# Altium schematic symbol library Interface USB.SchLib: 91 symbols (part 4 of 12)
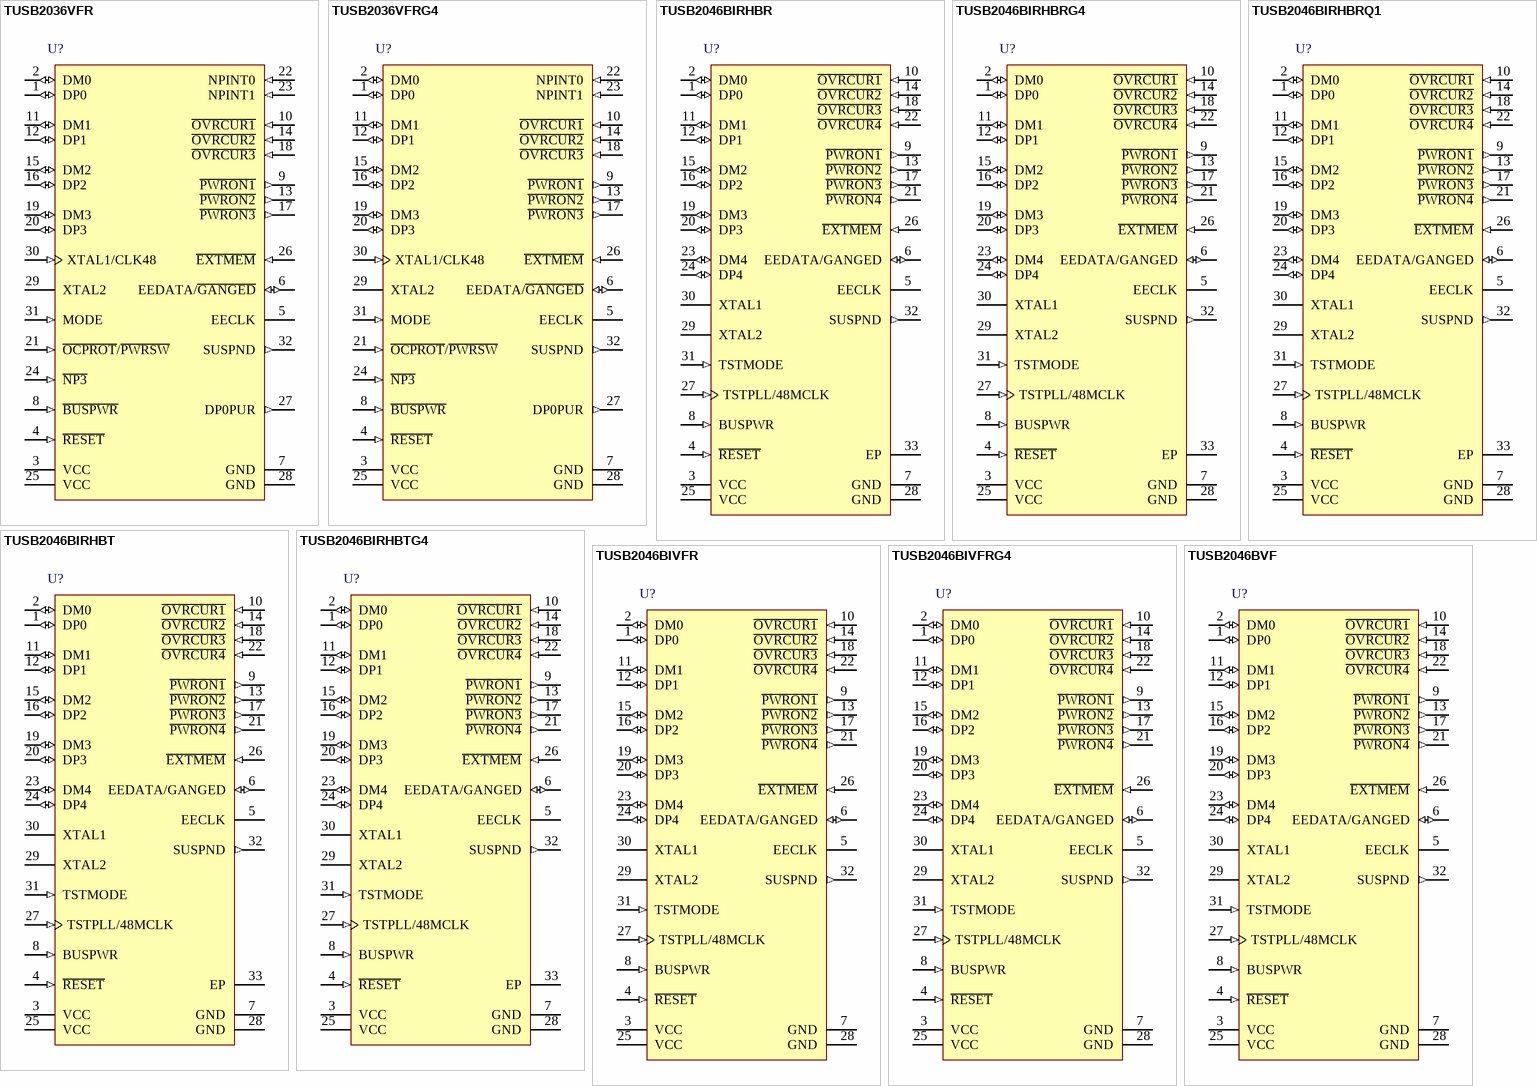
[diagram p11: symbols TUSB2036VFR to TUSB2046BVF]

## TUSB2046BIRHBR
designator U?
4-Port Full-Speed USB Hub, 3.3V, -40 to 85 degC, 32-Pin QFN (RHB), Green (RoHS & no Sb/Br); PartNumber: TUSB2046BIRHBR; Manufacturer: Texas Instruments; SubFamily: USB Hub Controller; USB Speed: Full; USB Full Speed: True; Supply Voltage(s)(V): 3.3; DatasheetVersion: SLLS413H; PackageVersion: revD, Jun-2011; PackageReference: RHB32-3450X3450TP; PackageDescription: 32-Pin Plastic Quad Flat No-Lead, 5 x 5 mm Body, 0.5 mm Pitch, 3.45 x 3.45 mm Exposed Pad; Mounting Technology: Surface Mount; Eco-Plan: Green (RoHS & no Sb/Br); Integrated MCU Architecture: N/A; Code_JEDEC: MO-220; ComponentLink1Description: Datasheet; ComponentLink1URL: http://www.ti.com/general/docs/lit/getliterature.tsp?genericPartNumber=TUSB2046B&fileType=pdf; ComponentLink2Description: Package Specification; ComponentLink2URL: http://www.ti.com/litv/pdf/mpqf130c
footprint RHB32-3450X3450TP (QFN, 32-Leads, Body 5x5mm, Pitch 0.5mm, Thermal Pad 3.45x3.45mm, TI Recommended)
pins: 1 DP0 (io) "Root port USB differential data plus. DP0 paired with DM0 constitutes the upstream USB port.", 2 DM0 (io) "Root port USB differential data minus. DM0 paired with DP0 constitutes the upstream USB port.", 3 VCC (power) "3.3-V supply voltage", 4 ~{RESET} (in) "R\E\S\E\T\ is an active low TTL input with hysteresis and must be asserted at power up. When R\E\S\E\T\ is asserted, all logic is initialized. Generally, a reset with a pulse width between 100 us and 1 ms is recommended (See Datasheet)", 5 EECLK (hiz) "EEPROM serial clock. When E\X\T\M\E\M\ is high, the EEPROM interface is disabled. The EECLK terminal is disabled and must be left floating (unconnected). When E\X\T\M\E\M\ is low, EECLK acts as a 3-state serial clock output (See Datasheet)", 6 EEDATA/GANGED (io) "EEPROM serial data/power-management mode indicator. When E\X\T\M\E\M\ is high, EEDATA/GANGED selects between ganged or per-port power overcurrent detection for the downstream ports. When E\X\T\M\E\M\ is low, EEDATA/GANGED (See Datasheet)", 7 GND (power) "GND terminals must be tied to ground for proper operation.", 8 BUSPWR (in) "Power source indicator. BUSPWR is an active-high input that indicates whether the downstream ports source their power from the USB cable or a local power supply. For the bus-power mode, this terminal must be pulled to 3.3 V, (See Datasheet)", 9 ~{PWRON1} (out) "Power-on/-off control signals. P\W\R\O\N\1\-P\W\R\O\N\4\ are active low, push-pull outputs. Push-pull outputs eliminate the pullup resistors which open-drain outputs require. However, the external power switches that connect (See Datasheet)", 10 ~{OVRCUR1} (in) "Overcurrent input. O\V\R\C\U\R\1\-O\V\R\C\U\R\4\are active low. For per-port overcurrent detection, one overcurrent input is available for each of the four downstream ports. In the ganged mode, any O\V\R\C\U\R\ input may be (See Datasheet)", 11 DM1 (io) "USB differential data minus. DM1-DM4 paired with DP1-DP4 support up to four downstream USB ports.", 12 DP1 (io) "USB differential data plus. DP1-DP4 paired with DM1-DM4 support up to four downstream USB ports.", 13 ~{PWRON2} (out) "Power-on/-off control signals. P\W\R\O\N\1\-P\W\R\O\N\4\ are active low, push-pull outputs. Push-pull outputs eliminate the pullup resistors which open-drain outputs require. However, the external power switches that connect (See Datasheet)", 14 ~{OVRCUR2} (in) "Overcurrent input. O\V\R\C\U\R\1\-O\V\R\C\U\R\4\are active low. For per-port overcurrent detection, one overcurrent input is available for each of the four downstream ports. In the ganged mode, any O\V\R\C\U\R\ input may be (See Datasheet)", 15 DM2 (io) "USB differential data minus. DM1-DM4 paired with DP1-DP4 support up to four downstream USB ports.", 16 DP2 (io) "USB differential data plus. DP1-DP4 paired with DM1-DM4 support up to four downstream USB ports.", 17 ~{PWRON3} (out) "Power-on/-off control signals. P\W\R\O\N\1\-P\W\R\O\N\4\ are active low, push-pull outputs. Push-pull outputs eliminate the pullup resistors which open-drain outputs require. However, the external power switches that connect (See Datasheet)", 18 ~{OVRCUR3} (in) "Overcurrent input. O\V\R\C\U\R\1\-O\V\R\C\U\R\4\are active low. For per-port overcurrent detection, one overcurrent input is available for each of the four downstream ports. In the ganged mode, any O\V\R\C\U\R\ input may be (See Datasheet)", 19 DM3 (io) "USB differential data minus. DM1-DM4 paired with DP1-DP4 support up to four downstream USB ports.", 20 DP3 (io) "USB differential data plus. DP1-DP4 paired with DM1-DM4 support up to four downstream USB ports.", 21 ~{PWRON4} (out) "Power-on/-off control signals. P\W\R\O\N\1\-P\W\R\O\N\4\ are active low, push-pull outputs. Push-pull outputs eliminate the pullup resistors which open-drain outputs require. However, the external power switches that connect (See Datasheet)", 22 ~{OVRCUR4} (in) "Overcurrent input. O\V\R\C\U\R\1\-O\V\R\C\U\R\4\are active low. For per-port overcurrent detection, one overcurrent input is available for each of the four downstream ports. In the ganged mode, any O\V\R\C\U\R\ input may be (See Datasheet)", 23 DM4 (io) "USB differential data minus. DM1-DM4 paired with DP1-DP4 support up to four downstream USB ports.", 24 DP4 (io) "USB differential data plus. DP1-DP4 paired with DM1-DM4 support up to four downstream USB ports.", 25 VCC (power) "3.3-V supply voltage", 26 ~{EXTMEM} (in) "When E\X\T\M\E\M\ is high, the serial EEPROM interface of the device is disabled. When E\X\T\M\E\M\ is low, terminals 5 and 6 are configured as the clock and data terminals of the serial EEPROM interface, respectively.", 27 TSTPLL/48MCLK (in) "Test/48-MHz clock input. TSTPLL/48MCLK is used as a test terminal during production testing. This terminal must be tied to ground for normal 6-MHz operation. If 48-MHz input clock is desired, a 48-MHz clock source (no (See Datasheet)", 28 GND (power) "GND terminals must be tied to ground for proper operation.", 29 XTAL2 "Crystal 2. XTAL2 is a 6-MHz crystal output. This terminal must be left open when using an oscillator.", 30 XTAL1 "Crystal 1. XTAL1 is a 6-MHz crystal input with 50% duty cycle. An internal PLL generates the 48-MHz and 12-MHz clocks used internally by the ASIC logic.", 31 TSTMODE (in) "Test/mode terminal. TSTMODE is used as a test terminal during production testing. This terminal must be tied to ground or 3.3-V VCC for normal 6-MHz or 48-MHz operation, respectively.", 32 SUSPND (out) "Suspend status. SUSPND is an active high output available for external logic power-down operations. During the suspend mode, SUSPND is high. SUSPND is low for normal operation.", 33 EP "Exposed Pad"

## TUSB2046BIRHBRG4
designator U?
4-Port Full-Speed USB Hub, 3.3V, -40 to 85 degC, 32-Pin QFN (RHB), Green (RoHS & no Sb/Br); PartNumber: TUSB2046BIRHBRG4; Manufacturer: Texas Instruments; SubFamily: USB Hub Controller; USB Speed: Full; USB Full Speed: True; Supply Voltage(s)(V): 3.3; DatasheetVersion: SLLS413H; PackageVersion: revD, Jun-2011; PackageReference: RHB32-3450X3450TP; PackageDescription: 32-Pin Plastic Quad Flat No-Lead, 5 x 5 mm Body, 0.5 mm Pitch, 3.45 x 3.45 mm Exposed Pad; Mounting Technology: Surface Mount; Eco-Plan: Green (RoHS & no Sb/Br); Integrated MCU Architecture: N/A; Code_JEDEC: MO-220; ComponentLink1Description: Datasheet; ComponentLink1URL: http://www.ti.com/general/docs/lit/getliterature.tsp?genericPartNumber=TUSB2046B&fileType=pdf; ComponentLink2Description: Package Specification; ComponentLink2URL: http://www.ti.com/litv/pdf/mpqf130c
footprint RHB32-3450X3450TP (QFN, 32-Leads, Body 5x5mm, Pitch 0.5mm, Thermal Pad 3.45x3.45mm, TI Recommended)
pins: 1 DP0 (io) "Root port USB differential data plus. DP0 paired with DM0 constitutes the upstream USB port.", 2 DM0 (io) "Root port USB differential data minus. DM0 paired with DP0 constitutes the upstream USB port.", 3 VCC (power) "3.3-V supply voltage", 4 ~{RESET} (in) "R\E\S\E\T\ is an active low TTL input with hysteresis and must be asserted at power up. When R\E\S\E\T\ is asserted, all logic is initialized. Generally, a reset with a pulse width between 100 us and 1 ms is recommended (See Datasheet)", 5 EECLK (hiz) "EEPROM serial clock. When E\X\T\M\E\M\ is high, the EEPROM interface is disabled. The EECLK terminal is disabled and must be left floating (unconnected). When E\X\T\M\E\M\ is low, EECLK acts as a 3-state serial clock output (See Datasheet)", 6 EEDATA/GANGED (io) "EEPROM serial data/power-management mode indicator. When E\X\T\M\E\M\ is high, EEDATA/GANGED selects between ganged or per-port power overcurrent detection for the downstream ports. When E\X\T\M\E\M\ is low, EEDATA/GANGED (See Datasheet)", 7 GND (power) "GND terminals must be tied to ground for proper operation.", 8 BUSPWR (in) "Power source indicator. BUSPWR is an active-high input that indicates whether the downstream ports source their power from the USB cable or a local power supply. For the bus-power mode, this terminal must be pulled to 3.3 V, (See Datasheet)", 9 ~{PWRON1} (out) "Power-on/-off control signals. P\W\R\O\N\1\-P\W\R\O\N\4\ are active low, push-pull outputs. Push-pull outputs eliminate the pullup resistors which open-drain outputs require. However, the external power switches that connect (See Datasheet)", 10 ~{OVRCUR1} (in) "Overcurrent input. O\V\R\C\U\R\1\-O\V\R\C\U\R\4\are active low. For per-port overcurrent detection, one overcurrent input is available for each of the four downstream ports. In the ganged mode, any O\V\R\C\U\R\ input may be (See Datasheet)", 11 DM1 (io) "USB differential data minus. DM1-DM4 paired with DP1-DP4 support up to four downstream USB ports.", 12 DP1 (io) "USB differential data plus. DP1-DP4 paired with DM1-DM4 support up to four downstream USB ports.", 13 ~{PWRON2} (out) "Power-on/-off control signals. P\W\R\O\N\1\-P\W\R\O\N\4\ are active low, push-pull outputs. Push-pull outputs eliminate the pullup resistors which open-drain outputs require. However, the external power switches that connect (See Datasheet)", 14 ~{OVRCUR2} (in) "Overcurrent input. O\V\R\C\U\R\1\-O\V\R\C\U\R\4\are active low. For per-port overcurrent detection, one overcurrent input is available for each of the four downstream ports. In the ganged mode, any O\V\R\C\U\R\ input may be (See Datasheet)", 15 DM2 (io) "USB differential data minus. DM1-DM4 paired with DP1-DP4 support up to four downstream USB ports.", 16 DP2 (io) "USB differential data plus. DP1-DP4 paired with DM1-DM4 support up to four downstream USB ports.", 17 ~{PWRON3} (out) "Power-on/-off control signals. P\W\R\O\N\1\-P\W\R\O\N\4\ are active low, push-pull outputs. Push-pull outputs eliminate the pullup resistors which open-drain outputs require. However, the external power switches that connect (See Datasheet)", 18 ~{OVRCUR3} (in) "Overcurrent input. O\V\R\C\U\R\1\-O\V\R\C\U\R\4\are active low. For per-port overcurrent detection, one overcurrent input is available for each of the four downstream ports. In the ganged mode, any O\V\R\C\U\R\ input may be (See Datasheet)", 19 DM3 (io) "USB differential data minus. DM1-DM4 paired with DP1-DP4 support up to four downstream USB ports.", 20 DP3 (io) "USB differential data plus. DP1-DP4 paired with DM1-DM4 support up to four downstream USB ports.", 21 ~{PWRON4} (out) "Power-on/-off control signals. P\W\R\O\N\1\-P\W\R\O\N\4\ are active low, push-pull outputs. Push-pull outputs eliminate the pullup resistors which open-drain outputs require. However, the external power switches that connect (See Datasheet)", 22 ~{OVRCUR4} (in) "Overcurrent input. O\V\R\C\U\R\1\-O\V\R\C\U\R\4\are active low. For per-port overcurrent detection, one overcurrent input is available for each of the four downstream ports. In the ganged mode, any O\V\R\C\U\R\ input may be (See Datasheet)", 23 DM4 (io) "USB differential data minus. DM1-DM4 paired with DP1-DP4 support up to four downstream USB ports.", 24 DP4 (io) "USB differential data plus. DP1-DP4 paired with DM1-DM4 support up to four downstream USB ports.", 25 VCC (power) "3.3-V supply voltage", 26 ~{EXTMEM} (in) "When E\X\T\M\E\M\ is high, the serial EEPROM interface of the device is disabled. When E\X\T\M\E\M\ is low, terminals 5 and 6 are configured as the clock and data terminals of the serial EEPROM interface, respectively.", 27 TSTPLL/48MCLK (in) "Test/48-MHz clock input. TSTPLL/48MCLK is used as a test terminal during production testing. This terminal must be tied to ground for normal 6-MHz operation. If 48-MHz input clock is desired, a 48-MHz clock source (no (See Datasheet)", 28 GND (power) "GND terminals must be tied to ground for proper operation.", 29 XTAL2 "Crystal 2. XTAL2 is a 6-MHz crystal output. This terminal must be left open when using an oscillator.", 30 XTAL1 "Crystal 1. XTAL1 is a 6-MHz crystal input with 50% duty cycle. An internal PLL generates the 48-MHz and 12-MHz clocks used internally by the ASIC logic.", 31 TSTMODE (in) "Test/mode terminal. TSTMODE is used as a test terminal during production testing. This terminal must be tied to ground or 3.3-V VCC for normal 6-MHz or 48-MHz operation, respectively.", 32 SUSPND (out) "Suspend status. SUSPND is an active high output available for external logic power-down operations. During the suspend mode, SUSPND is high. SUSPND is low for normal operation.", 33 EP "Exposed Pad"

## TUSB2046BIRHBRQ1
designator U?
Automotive Catalog 4-Port Full-Speed USB Hub, 3.3V, -40 to 85 degC, 32-Pin QFN (RHB), Green (RoHS & no Sb/Br); PartNumber: TUSB2046BIRHBRQ1; Manufacturer: Texas Instruments; SubFamily: USB Hub Controller; USB Speed: Full; USB Full Speed: True; Supply Voltage(s)(V): 3.3; DatasheetVersion: SLLSE50; PackageVersion: revD, Jun-2011; PackageReference: RHB32-3450X3450TP; PackageDescription: 32-Pin Plastic Quad Flat No-Lead, 5 x 5 mm Body, 0.5 mm Pitch, 3.45 x 3.45 mm Exposed Pad; Mounting Technology: Surface Mount; Eco-Plan: Green (RoHS & no Sb/Br); Integrated MCU Architecture: N/A; Code_JEDEC: MO-220; ComponentLink1Description: Datasheet; ComponentLink1URL: http://www.ti.com/general/docs/lit/getliterature.tsp?genericPartNumber=TUSB2046B-Q1&fileType=pdf; ComponentLink2Description: Package Specification; ComponentLink2URL: http://www.ti.com/litv/pdf/mpqf130c
footprint RHB32-3450X3450TP (QFN, 32-Leads, Body 5x5mm, Pitch 0.5mm, Thermal Pad 3.45x3.45mm, TI Recommended)
pins: 1 DP0 (io) "Root port USB differential data plus. DP0 paired with DM0 constitutes the upstream USB port", 2 DM0 (io) "Root port USB differential data minus. DM0 paired with DP0 constitutes the upstream USB port", 3 VCC (power) "3.3-V supply voltage", 4 ~{RESET} (in) "R\E\S\E\T\ is an active low TTL input with hysteresis and must be asserted at power up. When R\E\S\E\T\ is asserted, all logic is initialized. Generally, a reset with a pulse width between 100 us and 1 ms is recommended (See Datasheet)", 5 EECLK (hiz) "EEPROM serial clock. When E\X\T\M\E\M\ is high, the EEPROM interface is disabled. The EECLK terminal is disabled and must be left floating (unconnected). When E\X\T\M\E\M\ is low, EECLK acts as a 3-state serial clock output (See Datasheet)", 6 EEDATA/GANGED (io) "EEPROM serial data/power-management mode indicator. When E\X\T\M\E\M\ is high, EEDATA/GANGED selects between ganged or per-port power overcurrent detection for the downstream ports. When E\X\T\M\E\M\ is low, EEDATA/GANGED (See Datasheet)", 7 GND (power) "GND terminals must be tied to ground for proper operation.", 8 BUSPWR (in) "Power source indicator. BUSPWR is an active-high input that indicates whether the downstream ports source their power from the USB cable or a local power supply. For the bus-power mode, this terminal must be pulled to 3.3 V, (See Datasheet)", 9 ~{PWRON1} (out) "Power-on/-off control signals. P\W\R\O\N\1\-P\W\R\O\N\4\ are active low, push-pull outputs. Push-pull outputs eliminate the pullup resistors which open-drain outputs require. However, the external power switches that connect (See Datasheet)", 10 ~{OVRCUR1} (in) "Overcurrent input. O\V\R\C\U\R\1\-O\V\R\C\U\R\4\are active low. For per-port overcurrent detection, one overcurrent input is available for each of the four downstream ports. In the ganged mode, any O\V\R\C\U\R\ input may be (See Datasheet)", 11 DM1 (io) "USB differential data minus. DM1-DM4 paired with DP1-DP4 support up to four downstream USB ports.", 12 DP1 (io) "USB differential data plus. DP1-DP4 paired with DM1-DM4 support up to four downstream USB ports.", 13 ~{PWRON2} (out) "Power-on/-off control signals. P\W\R\O\N\1\-P\W\R\O\N\4\ are active low, push-pull outputs. Push-pull outputs eliminate the pullup resistors which open-drain outputs require. However, the external power switches that connect (See Datasheet)", 14 ~{OVRCUR2} (in) "Overcurrent input. O\V\R\C\U\R\1\-O\V\R\C\U\R\4\are active low. For per-port overcurrent detection, one overcurrent input is available for each of the four downstream ports. In the ganged mode, any O\V\R\C\U\R\ input may be (See Datasheet)", 15 DM2 (io) "USB differential data minus. DM1-DM4 paired with DP1-DP4 support up to four downstream USB ports.", 16 DP2 (io) "USB differential data plus. DP1-DP4 paired with DM1-DM4 support up to four downstream USB ports.", 17 ~{PWRON3} (out) "Power-on/-off control signals. P\W\R\O\N\1\-P\W\R\O\N\4\ are active low, push-pull outputs. Push-pull outputs eliminate the pullup resistors which open-drain outputs require. However, the external power switches that connect (See Datasheet)", 18 ~{OVRCUR3} (in) "Overcurrent input. O\V\R\C\U\R\1\-O\V\R\C\U\R\4\are active low. For per-port overcurrent detection, one overcurrent input is available for each of the four downstream ports. In the ganged mode, any O\V\R\C\U\R\ input may be (See Datasheet)", 19 DM3 (io) "USB differential data minus. DM1-DM4 paired with DP1-DP4 support up to four downstream USB ports.", 20 DP3 (io) "USB differential data plus. DP1-DP4 paired with DM1-DM4 support up to four downstream USB ports.", 21 ~{PWRON4} (out) "Power-on/-off control signals. P\W\R\O\N\1\-P\W\R\O\N\4\ are active low, push-pull outputs. Push-pull outputs eliminate the pullup resistors which open-drain outputs require. However, the external power switches that connect (See Datasheet)", 22 ~{OVRCUR4} (in) "Overcurrent input. O\V\R\C\U\R\1\-O\V\R\C\U\R\4\are active low. For per-port overcurrent detection, one overcurrent input is available for each of the four downstream ports. In the ganged mode, any O\V\R\C\U\R\ input may be (See Datasheet)", 23 DM4 (io) "USB differential data minus. DM1-DM4 paired with DP1-DP4 support up to four downstream USB ports.", 24 DP4 (io) "USB differential data plus. DP1-DP4 paired with DM1-DM4 support up to four downstream USB ports.", 25 VCC (power) "3.3-V supply voltage", 26 ~{EXTMEM} (in) "When E\X\T\M\E\M\ is high, the serial EEPROM interface of the device is disabled. When E\X\T\M\E\M\ is low, terminals 5 and 6 are configured as the clock and data terminals of the serial EEPROM interface, respectively.", 27 TSTPLL/48MCLK (in) "Test/48-MHz clock input. TSTPLL/48MCLK is used as a test terminal during production testing. This terminal must be tied to ground for normal 6-MHz operation. If 48-MHz input clock is desired, a 48-MHz clock source (no (See Datasheet)", 28 GND (power) "GND terminals must be tied to ground for proper operation.", 29 XTAL2 "Crystal 2. XTAL2 is a 6-MHz crystal output. This terminal must be left open when using an oscillator.", 30 XTAL1 "Crystal 1. XTAL1 is a 6-MHz crystal input with 50% duty cycle. An internal PLL generates the 48-MHz and 12-MHz clocks used internally by the ASIC logic.", 31 TSTMODE (in) "Test/mode terminal. TSTMODE is used as a test terminal during production testing. This terminal must be tied to ground or 3.3-V VCC for normal 6-MHz or 48-MHz operation, respectively.", 32 SUSPND (out) "Suspend status. SUSPND is an active high output available for external logic power-down operations. During the suspend mode, SUSPND is high. SUSPND is low for normal operation.", 33 EP "Exposed Pad"

## TUSB2046BIRHBT
designator U?
4-Port Full-Speed USB Hub, 3.3V, -40 to 85 degC, 32-Pin QFN (RHB), Green (RoHS & no Sb/Br); PartNumber: TUSB2046BIRHBT; Manufacturer: Texas Instruments; SubFamily: USB Hub Controller; USB Speed: Full; USB Full Speed: True; Supply Voltage(s)(V): 3.3; DatasheetVersion: SLLS413H; PackageVersion: revD, Jun-2011; PackageReference: RHB32-3450X3450TP; PackageDescription: 32-Pin Plastic Quad Flat No-Lead, 5 x 5 mm Body, 0.5 mm Pitch, 3.45 x 3.45 mm Exposed Pad; Mounting Technology: Surface Mount; Eco-Plan: Green (RoHS & no Sb/Br); Integrated MCU Architecture: N/A; Code_JEDEC: MO-220; ComponentLink1Description: Datasheet; ComponentLink1URL: http://www.ti.com/general/docs/lit/getliterature.tsp?genericPartNumber=TUSB2046B&fileType=pdf; ComponentLink2Description: Package Specification; ComponentLink2URL: http://www.ti.com/litv/pdf/mpqf130c
footprint RHB32-3450X3450TP (QFN, 32-Leads, Body 5x5mm, Pitch 0.5mm, Thermal Pad 3.45x3.45mm, TI Recommended)
pins: 1 DP0 (io) "Root port USB differential data plus. DP0 paired with DM0 constitutes the upstream USB port.", 2 DM0 (io) "Root port USB differential data minus. DM0 paired with DP0 constitutes the upstream USB port.", 3 VCC (power) "3.3-V supply voltage", 4 ~{RESET} (in) "R\E\S\E\T\ is an active low TTL input with hysteresis and must be asserted at power up. When R\E\S\E\T\ is asserted, all logic is initialized. Generally, a reset with a pulse width between 100 us and 1 ms is recommended (See Datasheet)", 5 EECLK (hiz) "EEPROM serial clock. When E\X\T\M\E\M\ is high, the EEPROM interface is disabled. The EECLK terminal is disabled and must be left floating (unconnected). When E\X\T\M\E\M\ is low, EECLK acts as a 3-state serial clock output (See Datasheet)", 6 EEDATA/GANGED (io) "EEPROM serial data/power-management mode indicator. When E\X\T\M\E\M\ is high, EEDATA/GANGED selects between ganged or per-port power overcurrent detection for the downstream ports. When E\X\T\M\E\M\ is low, EEDATA/GANGED (See Datasheet)", 7 GND (power) "GND terminals must be tied to ground for proper operation.", 8 BUSPWR (in) "Power source indicator. BUSPWR is an active-high input that indicates whether the downstream ports source their power from the USB cable or a local power supply. For the bus-power mode, this terminal must be pulled to 3.3 V, (See Datasheet)", 9 ~{PWRON1} (out) "Power-on/-off control signals. P\W\R\O\N\1\-P\W\R\O\N\4\ are active low, push-pull outputs. Push-pull outputs eliminate the pullup resistors which open-drain outputs require. However, the external power switches that connect (See Datasheet)", 10 ~{OVRCUR1} (in) "Overcurrent input. O\V\R\C\U\R\1\-O\V\R\C\U\R\4\are active low. For per-port overcurrent detection, one overcurrent input is available for each of the four downstream ports. In the ganged mode, any O\V\R\C\U\R\ input may be (See Datasheet)", 11 DM1 (io) "USB differential data minus. DM1-DM4 paired with DP1-DP4 support up to four downstream USB ports.", 12 DP1 (io) "USB differential data plus. DP1-DP4 paired with DM1-DM4 support up to four downstream USB ports.", 13 ~{PWRON2} (out) "Power-on/-off control signals. P\W\R\O\N\1\-P\W\R\O\N\4\ are active low, push-pull outputs. Push-pull outputs eliminate the pullup resistors which open-drain outputs require. However, the external power switches that connect (See Datasheet)", 14 ~{OVRCUR2} (in) "Overcurrent input. O\V\R\C\U\R\1\-O\V\R\C\U\R\4\are active low. For per-port overcurrent detection, one overcurrent input is available for each of the four downstream ports. In the ganged mode, any O\V\R\C\U\R\ input may be (See Datasheet)", 15 DM2 (io) "USB differential data minus. DM1-DM4 paired with DP1-DP4 support up to four downstream USB ports.", 16 DP2 (io) "USB differential data plus. DP1-DP4 paired with DM1-DM4 support up to four downstream USB ports.", 17 ~{PWRON3} (out) "Power-on/-off control signals. P\W\R\O\N\1\-P\W\R\O\N\4\ are active low, push-pull outputs. Push-pull outputs eliminate the pullup resistors which open-drain outputs require. However, the external power switches that connect (See Datasheet)", 18 ~{OVRCUR3} (in) "Overcurrent input. O\V\R\C\U\R\1\-O\V\R\C\U\R\4\are active low. For per-port overcurrent detection, one overcurrent input is available for each of the four downstream ports. In the ganged mode, any O\V\R\C\U\R\ input may be (See Datasheet)", 19 DM3 (io) "USB differential data minus. DM1-DM4 paired with DP1-DP4 support up to four downstream USB ports.", 20 DP3 (io) "USB differential data plus. DP1-DP4 paired with DM1-DM4 support up to four downstream USB ports.", 21 ~{PWRON4} (out) "Power-on/-off control signals. P\W\R\O\N\1\-P\W\R\O\N\4\ are active low, push-pull outputs. Push-pull outputs eliminate the pullup resistors which open-drain outputs require. However, the external power switches that connect (See Datasheet)", 22 ~{OVRCUR4} (in) "Overcurrent input. O\V\R\C\U\R\1\-O\V\R\C\U\R\4\are active low. For per-port overcurrent detection, one overcurrent input is available for each of the four downstream ports. In the ganged mode, any O\V\R\C\U\R\ input may be (See Datasheet)", 23 DM4 (io) "USB differential data minus. DM1-DM4 paired with DP1-DP4 support up to four downstream USB ports.", 24 DP4 (io) "USB differential data plus. DP1-DP4 paired with DM1-DM4 support up to four downstream USB ports.", 25 VCC (power) "3.3-V supply voltage", 26 ~{EXTMEM} (in) "When E\X\T\M\E\M\ is high, the serial EEPROM interface of the device is disabled. When E\X\T\M\E\M\ is low, terminals 5 and 6 are configured as the clock and data terminals of the serial EEPROM interface, respectively.", 27 TSTPLL/48MCLK (in) "Test/48-MHz clock input. TSTPLL/48MCLK is used as a test terminal during production testing. This terminal must be tied to ground for normal 6-MHz operation. If 48-MHz input clock is desired, a 48-MHz clock source (no (See Datasheet)", 28 GND (power) "GND terminals must be tied to ground for proper operation.", 29 XTAL2 "Crystal 2. XTAL2 is a 6-MHz crystal output. This terminal must be left open when using an oscillator.", 30 XTAL1 "Crystal 1. XTAL1 is a 6-MHz crystal input with 50% duty cycle. An internal PLL generates the 48-MHz and 12-MHz clocks used internally by the ASIC logic.", 31 TSTMODE (in) "Test/mode terminal. TSTMODE is used as a test terminal during production testing. This terminal must be tied to ground or 3.3-V VCC for normal 6-MHz or 48-MHz operation, respectively.", 32 SUSPND (out) "Suspend status. SUSPND is an active high output available for external logic power-down operations. During the suspend mode, SUSPND is high. SUSPND is low for normal operation.", 33 EP "Exposed Pad"

## TUSB2046BIRHBTG4
designator U?
4-Port Full-Speed USB Hub, 3.3V, -40 to 85 degC, 32-Pin QFN (RHB), Green (RoHS & no Sb/Br); PartNumber: TUSB2046BIRHBTG4; Manufacturer: Texas Instruments; SubFamily: USB Hub Controller; USB Speed: Full; USB Full Speed: True; Supply Voltage(s)(V): 3.3; DatasheetVersion: SLLS413H; PackageVersion: revD, Jun-2011; PackageReference: RHB32-3450X3450TP; PackageDescription: 32-Pin Plastic Quad Flat No-Lead, 5 x 5 mm Body, 0.5 mm Pitch, 3.45 x 3.45 mm Exposed Pad; Mounting Technology: Surface Mount; Eco-Plan: Green (RoHS & no Sb/Br); Integrated MCU Architecture: N/A; Code_JEDEC: MO-220; ComponentLink1Description: Datasheet; ComponentLink1URL: http://www.ti.com/general/docs/lit/getliterature.tsp?genericPartNumber=TUSB2046B&fileType=pdf; ComponentLink2Description: Package Specification; ComponentLink2URL: http://www.ti.com/litv/pdf/mpqf130c
footprint RHB32-3450X3450TP (QFN, 32-Leads, Body 5x5mm, Pitch 0.5mm, Thermal Pad 3.45x3.45mm, TI Recommended)
pins: 1 DP0 (io) "Root port USB differential data plus. DP0 paired with DM0 constitutes the upstream USB port.", 2 DM0 (io) "Root port USB differential data minus. DM0 paired with DP0 constitutes the upstream USB port.", 3 VCC (power) "3.3-V supply voltage", 4 ~{RESET} (in) "R\E\S\E\T\ is an active low TTL input with hysteresis and must be asserted at power up. When R\E\S\E\T\ is asserted, all logic is initialized. Generally, a reset with a pulse width between 100 us and 1 ms is recommended (See Datasheet)", 5 EECLK (hiz) "EEPROM serial clock. When E\X\T\M\E\M\ is high, the EEPROM interface is disabled. The EECLK terminal is disabled and must be left floating (unconnected). When E\X\T\M\E\M\ is low, EECLK acts as a 3-state serial clock output (See Datasheet)", 6 EEDATA/GANGED (io) "EEPROM serial data/power-management mode indicator. When E\X\T\M\E\M\ is high, EEDATA/GANGED selects between ganged or per-port power overcurrent detection for the downstream ports. When E\X\T\M\E\M\ is low, EEDATA/GANGED (See Datasheet)", 7 GND (power) "GND terminals must be tied to ground for proper operation.", 8 BUSPWR (in) "Power source indicator. BUSPWR is an active-high input that indicates whether the downstream ports source their power from the USB cable or a local power supply. For the bus-power mode, this terminal must be pulled to 3.3 V, (See Datasheet)", 9 ~{PWRON1} (out) "Power-on/-off control signals. P\W\R\O\N\1\-P\W\R\O\N\4\ are active low, push-pull outputs. Push-pull outputs eliminate the pullup resistors which open-drain outputs require. However, the external power switches that connect (See Datasheet)", 10 ~{OVRCUR1} (in) "Overcurrent input. O\V\R\C\U\R\1\-O\V\R\C\U\R\4\are active low. For per-port overcurrent detection, one overcurrent input is available for each of the four downstream ports. In the ganged mode, any O\V\R\C\U\R\ input may be (See Datasheet)", 11 DM1 (io) "USB differential data minus. DM1-DM4 paired with DP1-DP4 support up to four downstream USB ports.", 12 DP1 (io) "USB differential data plus. DP1-DP4 paired with DM1-DM4 support up to four downstream USB ports.", 13 ~{PWRON2} (out) "Power-on/-off control signals. P\W\R\O\N\1\-P\W\R\O\N\4\ are active low, push-pull outputs. Push-pull outputs eliminate the pullup resistors which open-drain outputs require. However, the external power switches that connect (See Datasheet)", 14 ~{OVRCUR2} (in) "Overcurrent input. O\V\R\C\U\R\1\-O\V\R\C\U\R\4\are active low. For per-port overcurrent detection, one overcurrent input is available for each of the four downstream ports. In the ganged mode, any O\V\R\C\U\R\ input may be (See Datasheet)", 15 DM2 (io) "USB differential data minus. DM1-DM4 paired with DP1-DP4 support up to four downstream USB ports.", 16 DP2 (io) "USB differential data plus. DP1-DP4 paired with DM1-DM4 support up to four downstream USB ports.", 17 ~{PWRON3} (out) "Power-on/-off control signals. P\W\R\O\N\1\-P\W\R\O\N\4\ are active low, push-pull outputs. Push-pull outputs eliminate the pullup resistors which open-drain outputs require. However, the external power switches that connect (See Datasheet)", 18 ~{OVRCUR3} (in) "Overcurrent input. O\V\R\C\U\R\1\-O\V\R\C\U\R\4\are active low. For per-port overcurrent detection, one overcurrent input is available for each of the four downstream ports. In the ganged mode, any O\V\R\C\U\R\ input may be (See Datasheet)", 19 DM3 (io) "USB differential data minus. DM1-DM4 paired with DP1-DP4 support up to four downstream USB ports.", 20 DP3 (io) "USB differential data plus. DP1-DP4 paired with DM1-DM4 support up to four downstream USB ports.", 21 ~{PWRON4} (out) "Power-on/-off control signals. P\W\R\O\N\1\-P\W\R\O\N\4\ are active low, push-pull outputs. Push-pull outputs eliminate the pullup resistors which open-drain outputs require. However, the external power switches that connect (See Datasheet)", 22 ~{OVRCUR4} (in) "Overcurrent input. O\V\R\C\U\R\1\-O\V\R\C\U\R\4\are active low. For per-port overcurrent detection, one overcurrent input is available for each of the four downstream ports. In the ganged mode, any O\V\R\C\U\R\ input may be (See Datasheet)", 23 DM4 (io) "USB differential data minus. DM1-DM4 paired with DP1-DP4 support up to four downstream USB ports.", 24 DP4 (io) "USB differential data plus. DP1-DP4 paired with DM1-DM4 support up to four downstream USB ports.", 25 VCC (power) "3.3-V supply voltage", 26 ~{EXTMEM} (in) "When E\X\T\M\E\M\ is high, the serial EEPROM interface of the device is disabled. When E\X\T\M\E\M\ is low, terminals 5 and 6 are configured as the clock and data terminals of the serial EEPROM interface, respectively.", 27 TSTPLL/48MCLK (in) "Test/48-MHz clock input. TSTPLL/48MCLK is used as a test terminal during production testing. This terminal must be tied to ground for normal 6-MHz operation. If 48-MHz input clock is desired, a 48-MHz clock source (no (See Datasheet)", 28 GND (power) "GND terminals must be tied to ground for proper operation.", 29 XTAL2 "Crystal 2. XTAL2 is a 6-MHz crystal output. This terminal must be left open when using an oscillator.", 30 XTAL1 "Crystal 1. XTAL1 is a 6-MHz crystal input with 50% duty cycle. An internal PLL generates the 48-MHz and 12-MHz clocks used internally by the ASIC logic.", 31 TSTMODE (in) "Test/mode terminal. TSTMODE is used as a test terminal during production testing. This terminal must be tied to ground or 3.3-V VCC for normal 6-MHz or 48-MHz operation, respectively.", 32 SUSPND (out) "Suspend status. SUSPND is an active high output available for external logic power-down operations. During the suspend mode, SUSPND is high. SUSPND is low for normal operation.", 33 EP "Exposed Pad"

## TUSB2046BIVFR
designator U?
4-Port Full-Speed USB Hub, 3.3V, -40 to 85 degC, 32-Pin LQFP (VF); PartNumber: TUSB2046BIVFR; Manufacturer: Texas Instruments; Eco-Plan: Green (RoHS & no Sb/Br); SubFamily: USB Hub Controller; USB Speed: Full; USB Full Speed: True; Supply Voltage(s)(V): 3.3; DatasheetVersion: SLLS413H; PackageVersion: revD, Apr-2000; PackageReference: VF32; PackageDescription: 32-Pin Plastic Quad Flatpack, 7 x 7 mm Body, 0.8 mm Pitch; Mounting Technology: Surface Mount; Integrated MCU Architecture: N/A; ComponentLink1Description: Datasheet; ComponentLink1URL: http://www.ti.com/general/docs/lit/getliterature.tsp?genericPartNumber=TUSB2046B&fileType=pdf; ComponentLink2Description: Package Specification; ComponentLink2URL: http://www.ti.com/litv/pdf/mtqf002b
footprint VF32_N (Thin QFP, 32-Leads, Body 7x7mm, Pitch 0.8mm, IPC Medium Density)
footprint VF32_L (Thin QFP, 32-Leads, Body 7x7mm, Pitch 0.8mm, IPC High Density)
footprint VF32_M (Thin QFP, 32-Leads, Body 7x7mm, Pitch 0.8mm, IPC Low Density)
pins: 1 DP0 (io) "Root port USB differential data plus. DP0 paired with DM0 constitutes the upstream USB port", 2 DM0 (io) "Root port USB differential data minus. DM0 paired with DP0 constitutes the upstream USB port", 3 VCC (power) "3.3-V supply voltage", 4 ~{RESET} (in) "R\E\S\E\T\ is an active low TTL input with hysteresis and must be asserted at power up. When R\E\S\E\T\ is asserted, all logic is initialized. Generally, a reset with a pulse width between 100 us and 1 ms is recommended (See Datasheet)", 5 EECLK (hiz) "EEPROM serial clock. When E\X\T\M\E\M\ is high, the EEPROM interface is disabled. The EECLK terminal is disabled and must be left floating (unconnected). When E\X\T\M\E\M\ is low, EECLK acts as a 3-state serial clock output (See Datasheet)", 6 EEDATA/GANGED (io) "EEPROM serial data/power-management mode indicator. When E\X\T\M\E\M\ is high, EEDATA/GANGED selects between ganged or per-port power overcurrent detection for the downstream ports. When E\X\T\M\E\M\ is low, EEDATA/GANGED (See Datasheet)", 7 GND (power) "GND terminals must be tied to ground for proper operation.", 8 BUSPWR (in) "Power source indicator. BUSPWR is an active-high input that indicates whether the downstream ports source their power from the USB cable or a local power supply. For the bus-power mode,this terminal must be pulled to 3.3 V, (See Datasheet)", 9 ~{PWRON1} (out) "Power-on/-off control signals. P\W\R\O\N\1\-P\W\R\O\N\4\ are active low, push-pull outputs. Push-pull outputs eliminate the pullup resistors which open-drain outputs require. However, the externalpower switches that connect (See Datasheet)", 10 ~{OVRCUR1} (in) "Overcurrent input. O\V\R\C\U\R\1\-O\V\R\C\U\R\4 \are active low. For per-port overcurrent detection, one overcurrent input is available for each of the four downstream ports. In the ganged mode, any O\V\R\C\U\R\ input may be (See Datasheet)", 11 DM1 (io) "USB differential data minus. DM1-DM4 paired with DP1-DP4 support up to four downstream USB ports.", 12 DP1 (io) "USB differential data plus. DP1-DP4 paired with DM1-DM4 support up to four downstream USB ports.", 13 ~{PWRON2} (out) "Power-on/-off control signals. P\W\R\O\N\1\-P\W\R\O\N\4\ are active low, push-pull outputs. Push-pull outputs eliminate the pullup resistors which open-drain outputs require. However, the externalpower switches that connect (See Datasheet)", 14 ~{OVRCUR2} (in) "Overcurrent input. O\V\R\C\U\R\1\-O\V\R\C\U\R\4 \are active low. For per-port overcurrent detection, one overcurrent input is available for each of the four downstream ports. In the ganged mode, any O\V\R\C\U\R\ input may be (See Datasheet)", 15 DM2 (io) "USB differential data minus. DM1-DM4 paired with DP1-DP4 support up to four downstream USB ports.", 16 DP2 (io) "USB differential data plus. DP1-DP4 paired with DM1-DM4 support up to four downstream USB ports.", 17 ~{PWRON3} (out) "Power-on/-off control signals. P\W\R\O\N\1\-P\W\R\O\N\4\ are active low, push-pull outputs. Push-pull outputs eliminate the pullup resistors which open-drain outputs require. However, the externalpower switches that connect (See Datasheet)", 18 ~{OVRCUR3} (in) "Overcurrent input. O\V\R\C\U\R\1\-O\V\R\C\U\R\4 \are active low. For per-port overcurrent detection, one overcurrent input is available for each of the four downstream ports. In the ganged mode, any O\V\R\C\U\R\ input may be (See Datasheet)", 19 DM3 (io) "USB differential data minus. DM1-DM4 paired with DP1-DP4 support up to four downstream USB ports.", 20 DP3 (io) "USB differential data plus. DP1-DP4 paired with DM1-DM4 support up to four downstream USB ports.", 21 ~{PWRON4} (out) "Power-on/-off control signals. P\W\R\O\N\1\-P\W\R\O\N\4\ are active low, push-pull outputs. Push-pull outputs eliminate the pullup resistors which open-drain outputs require. However, the externalpower switches that connect (See Datasheet)", 22 ~{OVRCUR4} (in) "Overcurrent input. O\V\R\C\U\R\1\-O\V\R\C\U\R\4 \are active low. For per-port overcurrent detection, one overcurrent input is available for each of the four downstream ports. In the ganged mode, any O\V\R\C\U\R\ input may be (See Datasheet)", 23 DM4 (io) "USB differential data minus. DM1-DM4 paired with DP1-DP4 support up to four downstream USB ports.", 24 DP4 (io) "USB differential data plus. DP1-DP4 paired with DM1-DM4 support up to four downstream USB ports.", 25 VCC (power) "3.3-V supply voltage", 26 ~{EXTMEM} (in) "When E\X\T\M\E\M\ is high, the serial EEPROM interface of the device is disabled. When E\X\T\M\E\M\ is low, terminals 5 and 6 are configured as the clock and data terminals of the serial EEPROM interface, respectively.", 27 TSTPLL/48MCLK (in) "Test/48-MHz clock input. TSTPLL/48MCLK is used as a test terminal during production testing. This terminal must be tied to ground for normal 6-MHz operation. If 48-MHz input clock is desired, a 48-MHz clock source (no (See Datasheet)", 28 GND (power) "GND terminals must be tied to ground for proper operation.", 29 XTAL2 "Crystal 2. XTAL2 is a 6-MHz crystal output. This terminal must be left open when using an oscillator.", 30 XTAL1 "Crystal 1. XTAL1 is a 6-MHz crystal input with 50% duty cycle. An internal PLL generates the 48-MHz and 12-MHz clocks used internally by the ASIC logic.", 31 TSTMODE (in) "Test/mode terminal. TSTMODE is used as a test terminal during production testing. This terminal must be tied to ground or 3.3-V VCC for normal 6-MHz or 48-MHz operation, respectively.", 32 SUSPND (out) "Suspend status. SUSPND is an active high output available for external logic power-down operations. During the suspend mode, SUSPND is high. SUSPND is low for normal operation."

## TUSB2046BIVFRG4
designator U?
4-Port Full-Speed USB Hub, 3.3V, -40 to 85 degC, 32-Pin LQFP (VF), Green (RoHS & no Sb/Br); PartNumber: TUSB2046BIVFRG4; Manufacturer: Texas Instruments; SubFamily: USB Hub Controller; USB Speed: Full; USB Full Speed: True; Supply Voltage(s)(V): 3.3; DatasheetVersion: SLLS413H; PackageVersion: revD, Apr-2000; PackageReference: VF32; PackageDescription: 32-Pin Plastic Quad Flatpack, 7 x 7 mm Body, 0.8 mm Pitch; Mounting Technology: Surface Mount; Eco-Plan: Green (RoHS & no Sb/Br); Integrated MCU Architecture: N/A; ComponentLink1Description: Datasheet; ComponentLink1URL: http://www.ti.com/general/docs/lit/getliterature.tsp?genericPartNumber=TUSB2046B&fileType=pdf; ComponentLink2Description: Package Specification; ComponentLink2URL: http://www.ti.com/litv/pdf/mtqf002b
footprint VF32_N (Thin QFP, 32-Leads, Body 7x7mm, Pitch 0.8mm, IPC Medium Density)
footprint VF32_L (Thin QFP, 32-Leads, Body 7x7mm, Pitch 0.8mm, IPC High Density)
footprint VF32_M (Thin QFP, 32-Leads, Body 7x7mm, Pitch 0.8mm, IPC Low Density)
pins: 1 DP0 (io) "Root port USB differential data plus. DP0 paired with DM0 constitutes the upstream USB port", 2 DM0 (io) "Root port USB differential data minus. DM0 paired with DP0 constitutes the upstream USB port", 3 VCC (power) "3.3-V supply voltage", 4 ~{RESET} (in) "R\E\S\E\T\ is an active low TTL input with hysteresis and must be asserted at power up. When R\E\S\E\T\ is asserted, all logic is initialized. Generally, a reset with a pulse width between 100 us and 1 ms is recommended (See Datasheet)", 5 EECLK (hiz) "EEPROM serial clock. When E\X\T\M\E\M\ is high, the EEPROM interface is disabled. The EECLK terminal is disabled and must be left floating (unconnected). When E\X\T\M\E\M\ is low, EECLK acts as a 3-state serial clock output (See Datasheet)", 6 EEDATA/GANGED (io) "EEPROM serial data/power-management mode indicator. When E\X\T\M\E\M\ is high, EEDATA/GANGED selects between ganged or per-port power overcurrent detection for the downstream ports. When E\X\T\M\E\M\ is low, EEDATA/GANGED (See Datasheet)", 7 GND (power) "GND terminals must be tied to ground for proper operation.", 8 BUSPWR (in) "Power source indicator. BUSPWR is an active-high input that indicates whether the downstream ports source their power from the USB cable or a local power supply. For the bus-power mode,this terminal must be pulled to 3.3 V, (See Datasheet)", 9 ~{PWRON1} (out) "Power-on/-off control signals. P\W\R\O\N\1\-P\W\R\O\N\4\ are active low, push-pull outputs. Push-pull outputs eliminate the pullup resistors which open-drain outputs require. However, the externalpower switches that connect (See Datasheet)", 10 ~{OVRCUR1} (in) "Overcurrent input. O\V\R\C\U\R\1\-O\V\R\C\U\R\4 \are active low. For per-port overcurrent detection, one overcurrent input is available for each of the four downstream ports. In the ganged mode, any O\V\R\C\U\R\ input may be (See Datasheet)", 11 DM1 (io) "USB differential data minus. DM1-DM4 paired with DP1-DP4 support up to four downstream USB ports.", 12 DP1 (io) "USB differential data plus. DP1-DP4 paired with DM1-DM4 support up to four downstream USB ports.", 13 ~{PWRON2} (out) "Power-on/-off control signals. P\W\R\O\N\1\-P\W\R\O\N\4\ are active low, push-pull outputs. Push-pull outputs eliminate the pullup resistors which open-drain outputs require. However, the externalpower switches that connect (See Datasheet)", 14 ~{OVRCUR2} (in) "Overcurrent input. O\V\R\C\U\R\1\-O\V\R\C\U\R\4 \are active low. For per-port overcurrent detection, one overcurrent input is available for each of the four downstream ports. In the ganged mode, any O\V\R\C\U\R\ input may be (See Datasheet)", 15 DM2 (io) "USB differential data minus. DM1-DM4 paired with DP1-DP4 support up to four downstream USB ports.", 16 DP2 (io) "USB differential data plus. DP1-DP4 paired with DM1-DM4 support up to four downstream USB ports.", 17 ~{PWRON3} (out) "Power-on/-off control signals. P\W\R\O\N\1\-P\W\R\O\N\4\ are active low, push-pull outputs. Push-pull outputs eliminate the pullup resistors which open-drain outputs require. However, the externalpower switches that connect (See Datasheet)", 18 ~{OVRCUR3} (in) "Overcurrent input. O\V\R\C\U\R\1\-O\V\R\C\U\R\4 \are active low. For per-port overcurrent detection, one overcurrent input is available for each of the four downstream ports. In the ganged mode, any O\V\R\C\U\R\ input may be (See Datasheet)", 19 DM3 (io) "USB differential data minus. DM1-DM4 paired with DP1-DP4 support up to four downstream USB ports.", 20 DP3 (io) "USB differential data plus. DP1-DP4 paired with DM1-DM4 support up to four downstream USB ports.", 21 ~{PWRON4} (out) "Power-on/-off control signals. P\W\R\O\N\1\-P\W\R\O\N\4\ are active low, push-pull outputs. Push-pull outputs eliminate the pullup resistors which open-drain outputs require. However, the externalpower switches that connect (See Datasheet)", 22 ~{OVRCUR4} (in) "Overcurrent input. O\V\R\C\U\R\1\-O\V\R\C\U\R\4 \are active low. For per-port overcurrent detection, one overcurrent input is available for each of the four downstream ports. In the ganged mode, any O\V\R\C\U\R\ input may be (See Datasheet)", 23 DM4 (io) "USB differential data minus. DM1-DM4 paired with DP1-DP4 support up to four downstream USB ports.", 24 DP4 (io) "USB differential data plus. DP1-DP4 paired with DM1-DM4 support up to four downstream USB ports.", 25 VCC (power) "3.3-V supply voltage", 26 ~{EXTMEM} (in) "When E\X\T\M\E\M\ is high, the serial EEPROM interface of the device is disabled. When E\X\T\M\E\M\ is low, terminals 5 and 6 are configured as the clock and data terminals of the serial EEPROM interface, respectively.", 27 TSTPLL/48MCLK (in) "Test/48-MHz clock input. TSTPLL/48MCLK is used as a test terminal during production testing. This terminal must be tied to ground for normal 6-MHz operation. If 48-MHz input clock is desired, a 48-MHz clock source (no (See Datasheet)", 28 GND (power) "GND terminals must be tied to ground for proper operation.", 29 XTAL2 "Crystal 2. XTAL2 is a 6-MHz crystal output. This terminal must be left open when using an oscillator.", 30 XTAL1 "Crystal 1. XTAL1 is a 6-MHz crystal input with 50% duty cycle. An internal PLL generates the 48-MHz and 12-MHz clocks used internally by the ASIC logic.", 31 TSTMODE (in) "Test/mode terminal. TSTMODE is used as a test terminal during production testing. This terminal must be tied to ground or 3.3-V VCC for normal 6-MHz or 48-MHz operation, respectively.", 32 SUSPND (out) "Suspend status. SUSPND is an active high output available for external logic power-down operations. During the suspend mode, SUSPND is high. SUSPND is low for normal operation."